# EAGLE library part TCA9548A (library HelaTronix - Modules)
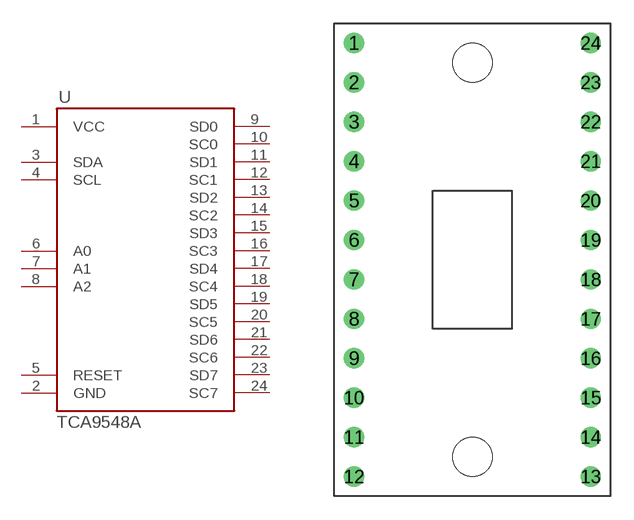
[diagram p5: symbol with the pads of TCA9548A; footprint TCA9548A]

Designator prefix -

## TCA9548A  [TCA9548A]
1  VCC
2  GND
3  SDA
4  SCL
5  RESET
6  A0
7  A1
8  A2
9  SD0
10  SC0
11  SD1
12  SC1
13  SD2
14  SC2
15  SD3
16  SC3
17  SD4
18  SC4
19  SD5
20  SC5
21  SD6
22  SC6
23  SD7
24  SC7

## Footprint TCA9548A (pad centres in mm)
drill 0.8: 1 -7.62,13.97; 2 -7.62,11.43; 3 -7.62,8.89; 4 -7.62,6.35; 5 -7.62,3.81; 6 -7.62,1.27; 7 -7.62,-1.27; 8 -7.62,-3.81; 9 -7.62,-6.35; 10 -7.62,-8.89; 11 -7.62,-11.43; 12 -7.62,-13.97; 13 7.62,-13.97; 14 7.62,-11.43; 15 7.62,-8.89; 16 7.62,-6.35; 17 7.62,-3.81; 18 7.62,-1.27; 19 7.62,1.27; 20 7.62,3.81; 21 7.62,6.35; 22 7.62,8.89; 23 7.62,11.43; 24 7.62,13.97
hole 2.54 at 0,12.7
hole 2.54 at 0,-12.7